# Altium footprint library PB-2.PcbLib: 1 footprints
Each footprint in its own frame and in the unit in brackets; x right, y up, seen from the top. Pads: shape width x height; smd on the part's side, far side on the other; paste and mask are expansions set on the pad; w line width, h text height; cw(c..) or ccw(c..) is an arc to the next point about the centre after c.
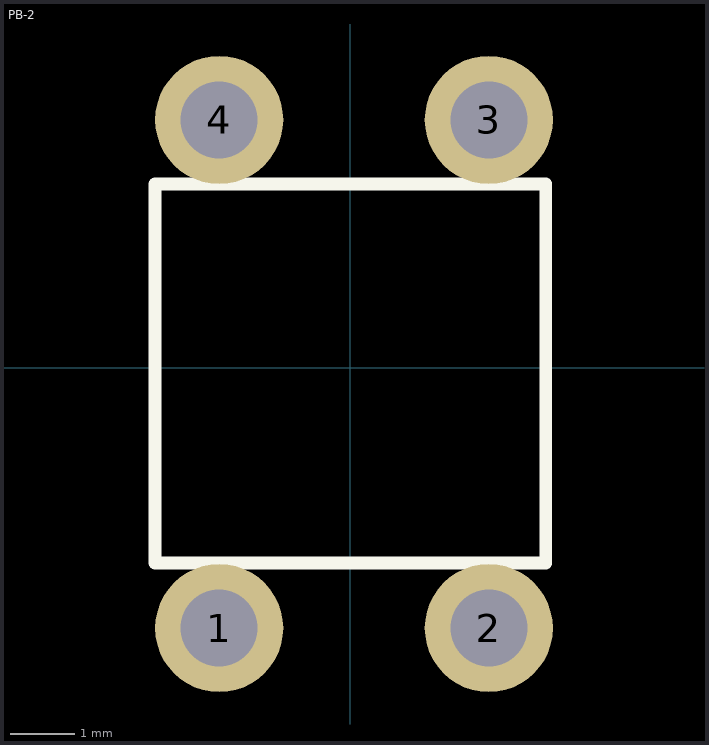
[diagram p0: the footprint, top view; thin cyan lines are the x and y axes]

## PB-2 [mm] "PB-2"
pads (4):
  round 2 hole 1.2: 1(-2.048,-4.064) 2(2.159,-4.064) 3(2.159,3.866) 4(-2.048,3.866)
Top Overlay:
  lines w0.2: -3.048,-3.048 3.048,-3.048 3.048,2.866 -3.048,2.866 -3.048,-3.048